# Altium footprint library LIANGJICHAO_LIBRARY.PCBLIB: 178 footprints (part 1 of 12)
Each footprint in its own frame and in the unit in brackets; x right, y up, seen from the top. Pads: shape width x height; smd on the part's side, far side on the other; paste and mask are expansions set on the pad; w line width, h text height; cw(c..) or ccw(c..) is an arc to the next point about the centre after c.
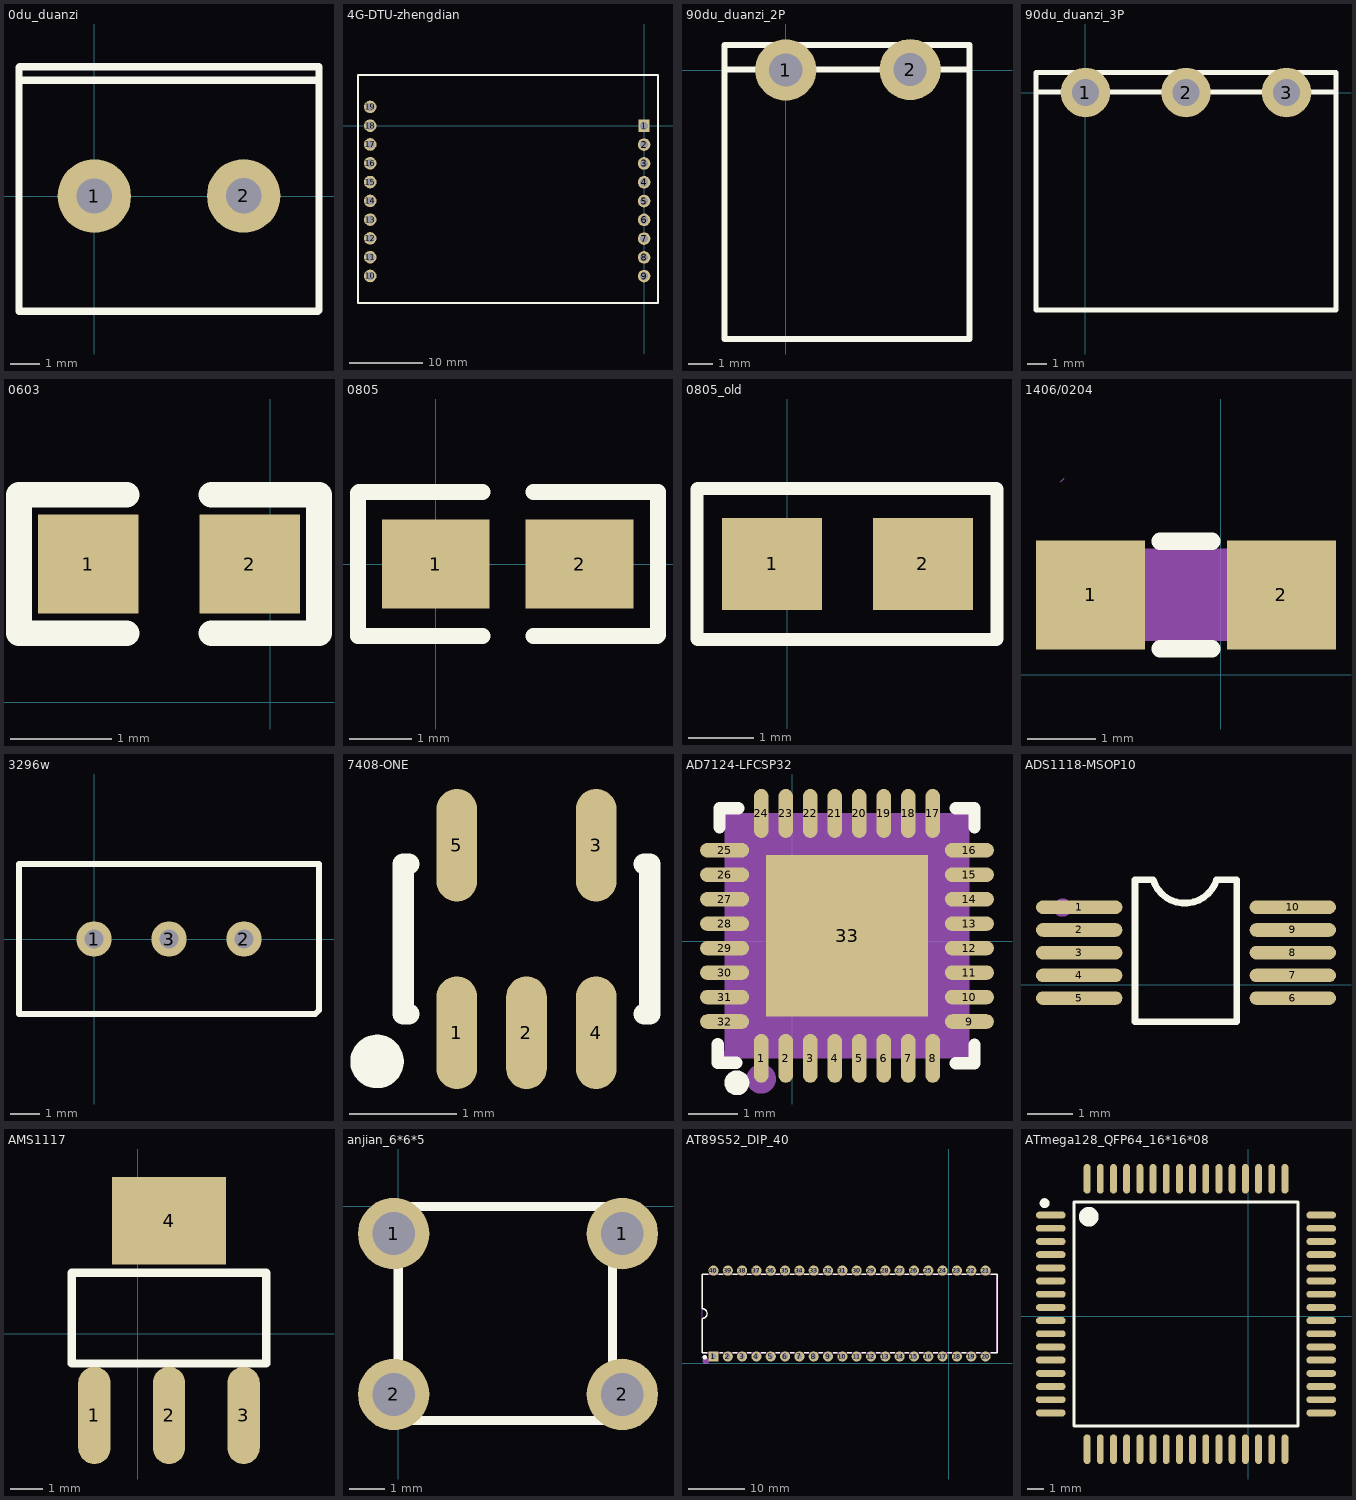
[diagram p0: the footprints below, top view; thin cyan lines are the x and y axes]

## 0du_duanzi [mm]
pads (2):
  round 2.5 hole 1.2: 1(0,0) 2(5.08,0.007)
Top Overlay:
  lines w0.254: -2.56,4.385 -2.56,3.937 ; -2.54,4.405 7.64,4.405 7.64,3.937 ; 7.6,-3.923 -2.56,-3.923 -2.56,3.937 ; 7.64,-3.883 7.64,3.937 ; -2.56,3.937 7.64,3.937

## 4G-DTU-zhengdian [mm]
pads (19):
  rect 1.524x1.7 hole 1.1: 1(0,0)
  round 1.7 hole 1.1: 2(0,-2.54) 3(0,-5.08) 4(0,-7.62) 5(0,-10.16) 6(0,-12.7) 7(0,-15.24) 8(0,-17.78) 9(0,-20.32) 10(-37.033,-20.295) 11(-37.033,-17.755) 12(-37.033,-15.215) 13(-37.033,-12.675) 14(-37.033,-10.135) 15(-37.033,-7.595) 16(-37.033,-5.055) 17(-37.033,-2.515) 18(-37.033,0.025) 19(-37.033,2.565)
Top Overlay:
  lines w0.254: -38.684,-23.952 -38.684,6.883 1.88,6.883 1.88,-23.952 -38.684,-23.952
Mechanical 15:
  region: -37.353,2.245 -37.353,2.885 -36.713,2.885 -36.713,2.245
  region: -37.353,-0.295 -37.353,0.345 -36.713,0.345 -36.713,-0.295
  region: -37.353,-2.835 -37.353,-2.195 -36.713,-2.195 -36.713,-2.835
  region: -37.353,-5.375 -37.353,-4.735 -36.713,-4.735 -36.713,-5.375
  region: -37.353,-7.915 -37.353,-7.275 -36.713,-7.275 -36.713,-7.915
  region: -37.353,-10.455 -37.353,-9.815 -36.713,-9.815 -36.713,-10.455
  region: -37.353,-12.995 -37.353,-12.355 -36.713,-12.355 -36.713,-12.995
  region: -37.353,-15.535 -37.353,-14.895 -36.713,-14.895 -36.713,-15.535
  region: -37.353,-18.075 -37.353,-17.435 -36.713,-17.435 -36.713,-18.075
  region: -37.353,-20.615 -37.353,-19.975 -36.713,-19.975 -36.713,-20.615
  region: 0.32,-20 0.32,-20.64 -0.32,-20.64 -0.32,-20
  region: 0.32,-17.46 0.32,-18.1 -0.32,-18.1 -0.32,-17.46
  region: 0.32,-14.92 0.32,-15.56 -0.32,-15.56 -0.32,-14.92
  region: 0.32,-12.38 0.32,-13.02 -0.32,-13.02 -0.32,-12.38
  region: 0.32,-9.84 0.32,-10.48 -0.32,-10.48 -0.32,-9.84
  region: 0.32,-7.3 0.32,-7.94 -0.32,-7.94 -0.32,-7.3
  region: 0.32,-4.76 0.32,-5.4 -0.32,-5.4 -0.32,-4.76
  region: 0.32,-2.22 0.32,-2.86 -0.32,-2.86 -0.32,-2.22
  region: 0.32,0.32 0.32,-0.32 -0.32,-0.32 -0.32,0.32

## 90du_duanzi_2P [mm]
pads (2):
  round 2.5 hole 1.35: 1(0,0) 2(5.08,0.016)
Top Overlay:
  lines w0.254: -2.5,0.016 7.5,0.016 ; -2.5,-10.984 7.5,-10.984 7.5,1.016 -2.5,1.016 -2.5,-10.984

## 90du_duanzi_3P [mm]
pads (3):
  round 2.5 hole 1.35: 1(0,0) 2(5.08,0) 3(10.16,0)
Top Overlay:
  lines w0.254: -2.5,0.016 7.5,0.016 12.644,0.016 ; 12.649,-10.984 7.5,-10.984 -2.5,-10.984 -2.5,1.016 7.5,1.016 12.649,1.016 ; 12.66,-10.998 12.66,0 12.66,0.98

## 0603 [mm]
pads (2):
  rect 1x0.98 smd: 1(-1.803,1.372) 2(-0.203,1.372)
Top Overlay:
  lines w0.254: -1.422,0.686 -2.489,0.686 -2.489,2.057 -1.422,2.057 ; -0.584,0.686 0.483,0.686 0.483,2.057 -0.584,2.057

## 0805 [mil]
pads (2):
  rect 68x56 smd: 1(0,0) 2(90.55,0)
Top Overlay:
  lines w7.87: -38,-45.28 -23,-45.28 ; -38,45.28 -22.45,45.28 ; 113.45,-45.28 129,-45.28 ; 114,45.28 129,45.28
  lines w10: 1.72,45.28 29.45,45.28 ; 15.72,45.28 -48.45,45.28 -49,44.72 -49,-45.28 -23,-45.28 29.45,-45.28 ; 61.55,-45.28 89.28,-45.28 ; 61.55,45.28 114,45.28 140,45.28 140,-44.72 139.45,-45.28 75.28,-45.28

## 0805_old [mil]
pads (2):
  rect 60x55 smd: 1(-9,123) 2(81.55,123)
Top Overlay:
  lines w7.87: 125.72,77.72 110.17,77.72 12.65,77.72 -53.72,77.72 -54,78 -54,123 -54,168 -53.72,168.28 12.65,168.28 110.72,168.28 125.72,168.28 ; 126,78 126,168

## 1406/0204 [mm] "RN412ESTTE9101F50"
pads (2):
  rect 1.6x1.6 smd: 1(-1.908,1.168) 2(0.892,1.168)
Top Overlay:
  lines w0.254: -0.889,0.381 -0.127,0.381 ; -0.889,1.956 -0.127,1.956
Mechanical 4:
  region: -2.258,1.843 1.242,1.843 1.242,0.493 -2.258,0.493
Mechanical 5:
  region: 0.492,1.868 1.292,1.868 1.292,0.468 0.492,0.468
  region: -2.308,1.868 -1.508,1.868 -1.508,0.468 -2.308,0.468
Mechanical 15:
  lines w0.003: -2.343,2.826 -2.293,2.877

## 3296w [mm]
pads (3):
  round 1.2 hole 0.65: 1(0,0) 2(5.08,0) 3(2.54,0)
Top Overlay:
  lines w0.2: -2.54,-2.54 7.493,-2.54 7.62,-2.413 7.62,0 7.62,2.54 -2.54,2.54 -2.54,-2.54

## 7408-ONE [mm]
pads (5):
  oval 0.38x1.05 smd: 1(-2.174,1.538) 2(-1.524,1.538) 3(-0.874,3.288) 4(-0.874,1.538) 5(-2.174,3.288)
Top Overlay:
  circle w0.25: c-2.919,1.27 r0.125
  lines w0.2: -2.624,1.713 -2.674,1.713 -2.674,3.113 -2.624,3.113 ; -0.424,1.713 -0.374,1.713 -0.374,3.113 -0.424,3.113

## AD7124-LFCSP32 [mm]
pads (33):
  oval 0.3x1 smd: 1(-0.628,-2.396) 2(-0.128,-2.396) 3(0.372,-2.396) 4(0.872,-2.396) 5(1.372,-2.396) 6(1.872,-2.396) 7(2.372,-2.396) 8(2.872,-2.396) 17(2.872,2.604) 18(2.372,2.604) 19(1.872,2.604) 20(1.372,2.604) 21(0.872,2.604) 22(0.372,2.604) 23(-0.128,2.604) 24(-0.628,2.604)
  oval 1x0.3 smd: 9(3.622,-1.645) 10(3.622,-1.145) 11(3.622,-0.645) 12(3.622,-0.145) 13(3.622,0.355) 14(3.622,0.855) 15(3.622,1.355) 16(3.622,1.855) 25(-1.378,1.855) 26(-1.378,1.355) 27(-1.378,0.855) 28(-1.378,0.355) 29(-1.378,-0.145) 30(-1.378,-0.645) 31(-1.378,-1.145) 32(-1.378,-1.645)
  rect 3.3x3.3 smd: 33(1.122,0.104)
Top Overlay:
  circle w0.254: c-1.128,-2.896 r0.127
  lines w0.254: -1.519,-2.105 -1.519,-2.486 -1.138,-2.486 ; -1.482,2.327 -1.482,2.708 -1.101,2.708 ; 3.344,-2.499 3.725,-2.499 3.725,-2.118 ; 3.344,2.708 3.725,2.708 3.725,2.327
Mechanical 4:
  region: -1.378,2.605 3.622,2.605 3.622,-2.395 -1.378,-2.395
Mechanical 5:
  region: 3.622,-1.496 3.622,-1.796 3.222,-1.796 3.222,-1.496
  region: 3.622,-0.996 3.622,-1.296 3.222,-1.296 3.222,-0.996
  region: 3.622,-0.496 3.622,-0.796 3.222,-0.796 3.222,-0.496
  region: 3.622,0.004 3.622,-0.296 3.222,-0.296 3.222,0.004
  region: 3.622,0.504 3.622,0.204 3.222,0.204 3.222,0.504
  region: 3.622,1.004 3.622,0.704 3.222,0.704 3.222,1.004
  region: 3.622,1.504 3.622,1.204 3.222,1.204 3.222,1.504
  region: 3.622,2.004 3.622,1.704 3.222,1.704 3.222,2.004
  region: -0.478,-2.396 -0.778,-2.396 -0.778,-1.996 -0.478,-1.996
  region: 0.022,-2.396 -0.278,-2.396 -0.278,-1.996 0.022,-1.996
  region: 0.522,-2.396 0.222,-2.396 0.222,-1.996 0.522,-1.996
  region: 1.022,-2.396 0.722,-2.396 0.722,-1.996 1.022,-1.996
  region: 1.522,-2.396 1.222,-2.396 1.222,-1.996 1.522,-1.996
  region: 2.022,-2.396 1.722,-2.396 1.722,-1.996 2.022,-1.996
  region: 2.522,-2.396 2.222,-2.396 2.222,-1.996 2.522,-1.996
  region: 3.022,-2.396 2.722,-2.396 2.722,-1.996 3.022,-1.996
  region: -1.378,1.705 -1.378,2.005 -0.978,2.005 -0.978,1.705
  region: -1.378,1.205 -1.378,1.504 -0.978,1.504 -0.978,1.205
  region: -1.378,0.705 -1.378,1.005 -0.978,1.005 -0.978,0.705
  region: -1.378,0.205 -1.378,0.504 -0.978,0.504 -0.978,0.205
  region: -1.378,-0.295 -1.378,0.005 -0.978,0.005 -0.978,-0.295
  region: -1.378,-0.795 -1.378,-0.496 -0.978,-0.496 -0.978,-0.795
  region: -1.378,-1.295 -1.378,-0.995 -0.978,-0.995 -0.978,-1.295
  region: -1.378,-1.795 -1.378,-1.496 -0.978,-1.496 -0.978,-1.795
  region: 2.722,2.605 3.022,2.605 3.022,2.205 2.722,2.205
  region: 2.222,2.605 2.522,2.605 2.522,2.205 2.222,2.205
  region: 1.722,2.605 2.022,2.605 2.022,2.205 1.722,2.205
  region: 1.222,2.605 1.522,2.605 1.522,2.205 1.222,2.205
  region: 0.722,2.605 1.022,2.605 1.022,2.205 0.722,2.205
  region: 0.222,2.605 0.522,2.605 0.522,2.205 0.222,2.205
  region: -0.278,2.605 0.022,2.605 0.022,2.205 -0.278,2.205
  region: -0.628,1.854 2.872,1.854 2.872,-1.646 -0.628,-1.646
  region: -0.778,2.605 -0.478,2.605 -0.478,2.205 -0.778,2.205
Mechanical 6:
  circle w0.127: c-1.328,-2.346 r0.05
Mechanical 15:
  circle w0.3: c-0.63,-2.817 r0.15

## ADS1118-MSOP10 [mm]
pads (10):
  oval 1.9x0.3 smd: 1(1.768,1.71) 2(1.768,1.21) 3(1.768,0.71) 4(1.768,0.21) 5(1.768,-0.29) 6(6.468,-0.29) 7(6.468,0.21) 8(6.468,0.71) 9(6.468,1.21) 10(6.468,1.71)
Top Overlay:
  lines w0.15: 4.791,2.313 cw(c4.092,2.53) 3.394,2.313 2.997,2.313 2.997,-0.812 5.232,-0.812 5.232,2.313 4.816,2.313
Mechanical 15:
  circle w0.2: c1.4,1.7 r0.1

## AMS1117 [mm]
pads (4):
  oval 1x3 smd: 1(-1.344,-2.519) 2(0.956,-2.519) 3(3.256,-2.519)
  rect 3.5x2.7 smd: 4(0.956,3.481)
Top Overlay:
  lines w0.254: -2.044,-0.919 3.956,-0.919 3.956,1.881 -2.044,1.881 -2.044,-0.919

## anjian_6*6*5 [mm]
pads (4):
  round 2 hole 1.2: 1(-0.127,-0.762) 1(6.273,-0.762) 2(-0.127,-5.262) 2(6.273,-5.262)
Top Overlay:
  lines w0.254: 0,-6 6,-6 6,0 0,0 0,-6

## AT89S52_DIP_40 [mm]
pads (40):
  rect 1.801x1.801 hole 1.001 mask+0.051: 1(-41.709,1.227)
  round 1.801 hole 1.001 mask+0.051: 2(-39.169,1.227) 3(-36.629,1.227) 4(-34.089,1.227) 5(-31.549,1.227) 6(-29.009,1.227) 7(-26.469,1.227) 8(-23.929,1.227) 9(-21.389,1.227) 10(-18.849,1.227) 11(-16.309,1.227) 12(-13.769,1.227) 13(-11.229,1.227) 14(-8.689,1.227) 15(-6.149,1.227) 16(-3.609,1.227) 17(-1.069,1.227) 18(1.471,1.227) 19(4.011,1.227) 20(6.551,1.227) 21(6.551,16.467) 22(4.011,16.467) 23(1.471,16.467) 24(-1.069,16.467) 25(-3.609,16.467) 26(-6.149,16.467) 27(-8.689,16.467) 28(-11.229,16.467) 29(-13.769,16.467) 30(-16.309,16.467) 31(-18.849,16.467) 32(-21.389,16.467) 33(-23.929,16.467) 34(-26.469,16.467) 35(-29.009,16.467) 36(-31.549,16.467) 37(-34.089,16.467) 38(-36.629,16.467) 39(-39.169,16.467) 40(-41.709,16.467)
Top Overlay:
  circle w0.399: c-43.249,1.097 r0.201
  lines w0.254: -42.84,1.913 -43.741,1.913 -43.741,7.958 ccw(c-43.741,8.847) -43.741,9.736 -43.741,15.781 -42.608,15.781 ; -40.81,15.781 -40.069,15.781 ; -40.579,1.913 -40.069,1.913 ; -38.27,1.913 -37.529,1.913 ; -38.27,15.781 -37.529,15.781 ; -35.73,1.913 -34.989,1.913 ; -35.73,15.781 -34.989,15.781 ; -33.19,1.913 -32.448,1.913 ; -33.19,15.781 -32.448,15.781 ; -30.65,1.913 -29.909,1.913 ; -30.65,15.781 -29.909,15.781 ; -28.11,1.913 -27.368,1.913 ; -28.11,15.781 -27.368,15.781 ; -25.57,1.913 -24.828,1.913 ; -25.57,15.781 -24.828,15.781 ; -23.03,1.913 -22.288,1.913 ; -23.03,15.781 -22.288,15.781 ; -20.49,1.913 -19.748,1.913 ; -20.49,15.781 -19.748,15.781 ; -17.95,1.913 -17.209,1.913 ; -17.95,15.781 -17.209,15.781 ; -15.41,1.913 -14.668,1.913 ; -15.41,15.781 -14.668,15.781 ; -12.87,1.913 -12.128,1.913 ; -12.87,15.781 -12.128,15.781 ; -10.33,1.913 -9.588,1.913 ; -10.33,15.781 -9.588,15.781 ; -7.79,1.913 -7.048,1.913 ; -7.79,15.781 -7.048,15.781 ; -5.25,1.913 -4.508,1.913 ; -5.25,15.781 -4.508,15.781 ; -2.71,1.913 -1.968,1.913 ; -2.71,15.781 -1.968,15.781 ; -0.17,1.913 0.572,1.913 ; -0.17,15.781 0.572,15.781 ; 2.37,1.913 3.111,1.913 ; 2.37,15.781 3.111,15.781 ; 4.91,1.913 5.651,1.913 ; 4.91,15.781 5.651,15.781 ; 7.45,1.913 8.583,1.913 8.583,15.781 7.45,15.781
Mechanical 6:
  circle w0.599: c-43.048,0.478 r0.3
Mechanical 15:
  drawing of 85 lines, arcs and shapes, not listed

## ATmega128_QFP64_16*16*08 [mm]
pads (64):
  oval 1.8x0.42 smd: 1(-11.984,6.122) 2(-11.984,5.322) 3(-11.984,4.522) 4(-11.984,3.722) 5(-11.984,2.922) 6(-11.984,2.122) 7(-11.984,1.322) 8(-11.984,0.522) 9(-11.984,-0.278) 10(-11.984,-1.078) 11(-11.984,-1.878) 12(-11.984,-2.678) 13(-11.984,-3.478) 14(-11.984,-4.278) 15(-11.984,-5.078) 16(-11.984,-5.878) 33(4.416,-5.878) 34(4.416,-5.078) 35(4.416,-4.278) 36(4.416,-3.478) 37(4.416,-2.678) 38(4.416,-1.878) 39(4.416,-1.078) 40(4.416,-0.278) 41(4.416,0.522) 42(4.416,1.322) 43(4.416,2.122) 44(4.416,2.922) 45(4.416,3.722) 46(4.416,4.522) 47(4.416,5.322) 48(4.416,6.122)
  oval 0.42x1.8 smd: 17(-9.784,-8.078) 18(-8.984,-8.078) 19(-8.184,-8.078) 20(-7.384,-8.078) 21(-6.584,-8.078) 22(-5.784,-8.078) 23(-4.984,-8.078) 24(-4.184,-8.078) 25(-3.384,-8.078) 26(-2.584,-8.078) 27(-1.784,-8.078) 28(-0.984,-8.078) 29(-0.184,-8.078) 30(0.616,-8.078) 31(1.416,-8.078) 32(2.216,-8.078) 49(2.216,8.322) 50(1.416,8.322) 51(0.616,8.322) 52(-0.184,8.322) 53(-0.984,8.322) 54(-1.784,8.322) 55(-2.584,8.322) 56(-3.384,8.322) 57(-4.184,8.322) 58(-4.984,8.322) 59(-5.784,8.322) 60(-6.584,8.322) 61(-7.384,8.322) 62(-8.184,8.322) 63(-8.984,8.322) 64(-9.784,8.322)
Top Overlay:
  circle w0.3: c-12.359,6.847 r0.15
  circle w0.6: c-9.684,6.022 r0.3
  lines w0.2: -10.584,-6.678 3.016,-6.678 3.016,6.922 -10.584,6.922 -10.584,-6.678